# Altium footprint library MiscParts.PcbLib: 1 footprints
Each footprint in its own frame and in the unit in brackets; x right, y up, seen from the top. Pads: shape width x height; smd on the part's side, far side on the other; paste and mask are expansions set on the pad; w line width, h text height; cw(c..) or ccw(c..) is an arc to the next point about the centre after c.
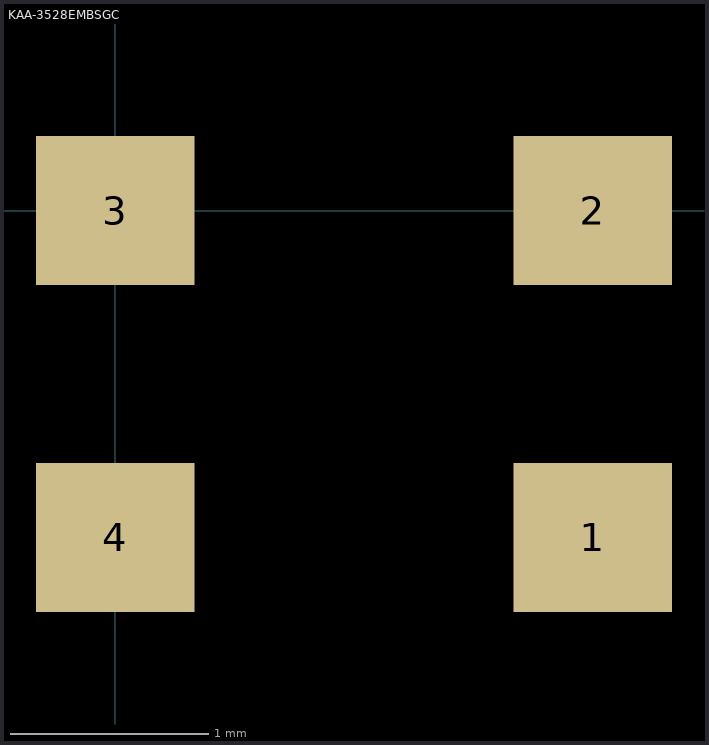
[diagram p0: the footprint, top view; thin cyan lines are the x and y axes]

## KAA-3528EMBSGC [mm]
pads (4):
  rect 0.8x0.75 smd: 1(2.413,-1.651) 2(2.413,0) 3(0,0) 4(0,-1.651)
3D body: height 3, standoff 0, extent -0.381,-2.54 2.794,0.889